# Altium schematic symbol library YAGEO-RT-Series.SchLib: 2 symbols
Pins are listed as number, name and electrical type; pins without a type are passive.

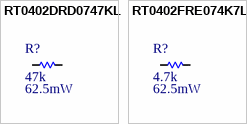
[diagram p0: symbols RT0402DRD0747KL to RT0402FRE074K7L]

## RT0402DRD0747KL
designator R?  value 47k  Value2: 62.5mW  (hidden comment: RT0402DRD0747KL)
47 kOhms ±0.5% 0.063W, 1/16W Chip Resistor 0402 (1005 Metric) - Thin Film; Type: RT0402DRD0747KL
footprint RT0402_C (Chip Resistor, 2-Leads, Body 1.00x0.50mm, IPC High Density)
pins: 1, 2

## RT0402FRE074K7L
designator R?  value 4.7k  Value2: 62.5mW  (hidden comment: RT0402FRE074K7L)
4.7 kOhms ±1% 0.063W, 1/16W Chip Resistor 0402 (1005 Metric) - Thin Film; Type: RT0402FRE074K7L
footprint RT0402_C (Chip Resistor, 2-Leads, Body 1.00x0.50mm, IPC High Density)
pins: 1, 2